# EAGLE library part HT8955A (library mb_delay)
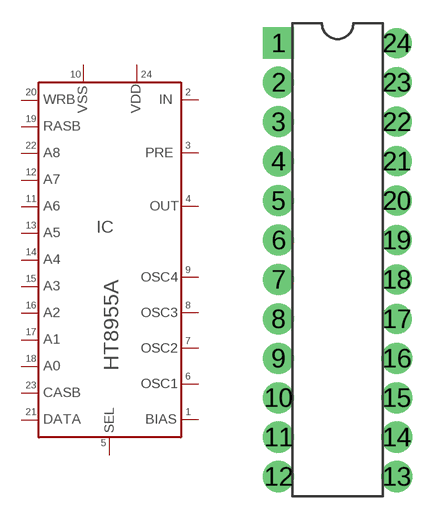
[diagram p4: symbol with the pads of DIL24; footprint DIL24]

Designator prefix IC

## HT8955A  [DIL24]
1  1
2  2
3  3
4  4
5  5
6  6
7  7
8  8
9  9
10  10
11  11
12  12
13  13
14  14
15  15
16  16
17  17
18  18
19  19
20  20
21  21
22  22
23  23
24  24

## Footprint DIL24 (pad centres in mm)
drill 1 pad 2 square: 1 -3.81,12.7
drill 1 pad 2 round: 2 -3.81,10.16; 3 -3.81,7.62; 4 -3.81,5.08; 5 -3.81,2.54; 6 -3.81,0; 7 -3.81,-2.54; 8 -3.81,-5.08; 9 -3.81,-7.62; 10 -3.81,-10.16; 11 -3.81,-12.7; 12 -3.81,-15.24; 13 3.81,-15.24; 14 3.81,-12.7; 15 3.81,-10.16; 16 3.81,-7.62
drill 1 pad 1.93 round: 17 3.81,-5.08; 18 3.81,-2.54; 19 3.81,0; 20 3.81,2.54; 21 3.81,5.08; 22 3.81,7.62; 23 3.81,10.16; 24 3.81,12.7